# Altium schematic symbol library LM3880MFX-1AB_NOPB.SchLib: 1 symbol
Pins are listed as number, name and electrical type; pins without a type are passive.

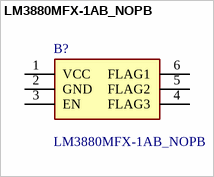
[diagram p0: symbol LM3880MFX-1AB_NOPB]

## LM3880MFX-1AB_NOPB
designator B?
3 Rail Simple Power Sequencer with Fixed Time Delay; Manufacturer_Name: Texas Instruments; Manufacturer_Part_Number: LM3880MFX-1AB/NOPB; Geometry.Height: 1.45mm; Mouser Part Number: 926-LM3880MFX1ABNOPB; Mouser Price/Stock: https://www.mouser.co.uk/ProductDetail/Texas-Instruments/LM3880MFX-1AB-NOPB?qs=QbsRYf82W3HDF2qNeDWLVw%3D%3D; Datasheet Link: http://www.ti.com/lit/gpn/lm3880
footprint SOT95P280X145-6N
pins: 1 VCC, 2 GND, 3 EN, 4 FLAG3, 5 FLAG2, 6 FLAG1